# EAGLE library part К176ИЕ13 (library К176)
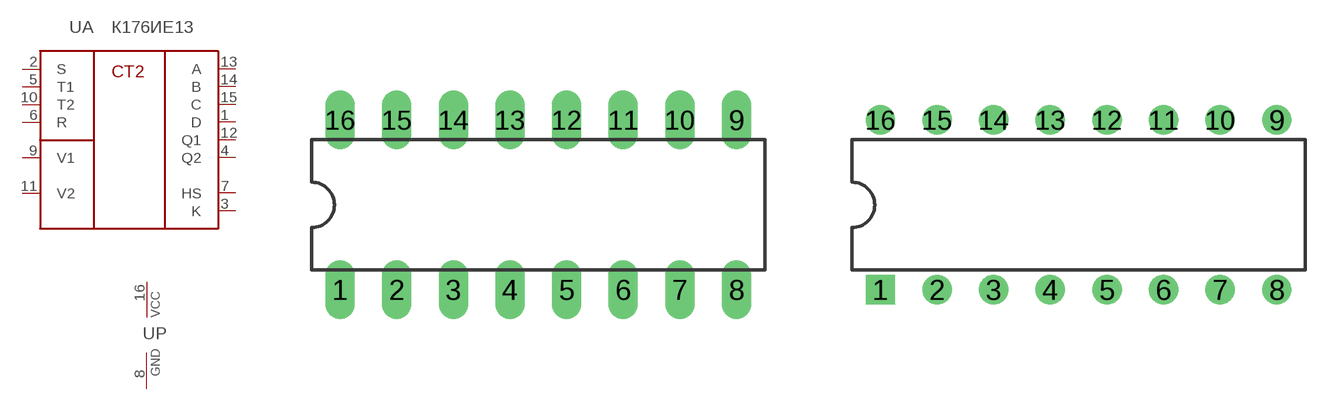
[diagram p2: symbol with the pads of DIL16; footprints DIL16, DIL16B]

Designator prefix -; gates A=К176ИЕ13 P=PWRN

## К176ИЕ13L  [DIL16]
1  A:D  out
2  A:S  in
3  A:K  out
4  A:Q2  out
5  A:T1  in
6  A:R  in
7  A:HS  out
8  P:GND  pwr
9  A:V1  in
10  A:T2  in
11  A:V2  in
12  A:Q1  out
13  A:A  out
14  A:B  out
15  A:C  out
16  P:VCC  pwr

## К176ИЕ13  [DIL16B]
Pads as for DIL16

## Footprint DIL16 (pad centres in mm)
Dual In Line Package
drill 0.813 long: 1 -8.89,-3.81; 2 -6.35,-3.81; 3 -3.81,-3.81; 4 -1.27,-3.81; 5 1.27,-3.81; 6 3.81,-3.81; 7 6.35,-3.81; 8 8.89,-3.81; 9 8.89,3.81; 10 6.35,3.81; 11 3.81,3.81; 12 1.27,3.81; 13 -1.27,3.81; 14 -3.81,3.81; 15 -6.35,3.81; 16 -8.89,3.81

## Footprint DIL16B (pad centres in mm)
Dual In Line Package
drill 0.813 square: 1 -8.89,-3.81
drill 0.813: 2 -6.35,-3.81; 3 -3.81,-3.81; 4 -1.27,-3.81; 5 1.27,-3.81; 6 3.81,-3.81; 7 6.35,-3.81; 8 8.89,-3.81; 9 8.89,3.81; 10 6.35,3.81; 11 3.81,3.81; 12 1.27,3.81; 13 -1.27,3.81; 14 -3.81,3.81; 15 -6.35,3.81; 16 -8.89,3.81